# Altium schematic symbol library THVD1450D.SchLib: 1 symbol
Pins are listed as number, name and electrical type; pins without a type are passive.

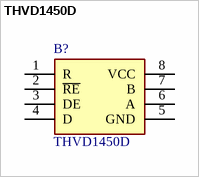
[diagram p0: symbol THVD1450D]

## THVD1450D
designator B?
3.3-V to 5-V RS-485 transceiver with +/-18-kV IEC ESD protection; Manufacturer_Name: Texas Instruments; Geometry.Height: 1.75mm; Manufacturer_Part_Number: THVD1450D; Mouser Part Number: 595-THVD1450D; Mouser Price/Stock: https://www.mouser.co.uk/ProductDetail/Texas-Instruments/THVD1450D?qs=chTDxNqvsylemUKR9F4kpw%3D%3D; Arrow Part Number: THVD1450D; Arrow Price/Stock: https://www.arrow.com/en/products/thvd1450d/texas-instruments?region=europe; Datasheet Link: http://www.ti.com/lit/gpn/THVD1450
footprint SOIC127P600X175-8N
pins: 1 R, 2 ~{RE}, 3 DE, 4 D, 5 GND, 6 A, 7 B, 8 VCC